# Altium footprint library LH_Traffic_Lignt_V2.0.PcbLib: 49 footprints (part 2 of 4)
Each footprint in its own frame and in the unit in brackets; x right, y up, seen from the top. Pads: shape width x height; smd on the part's side, far side on the other; paste and mask are expansions set on the pad; w line width, h text height; cw(c..) or ccw(c..) is an arc to the next point about the centre after c.
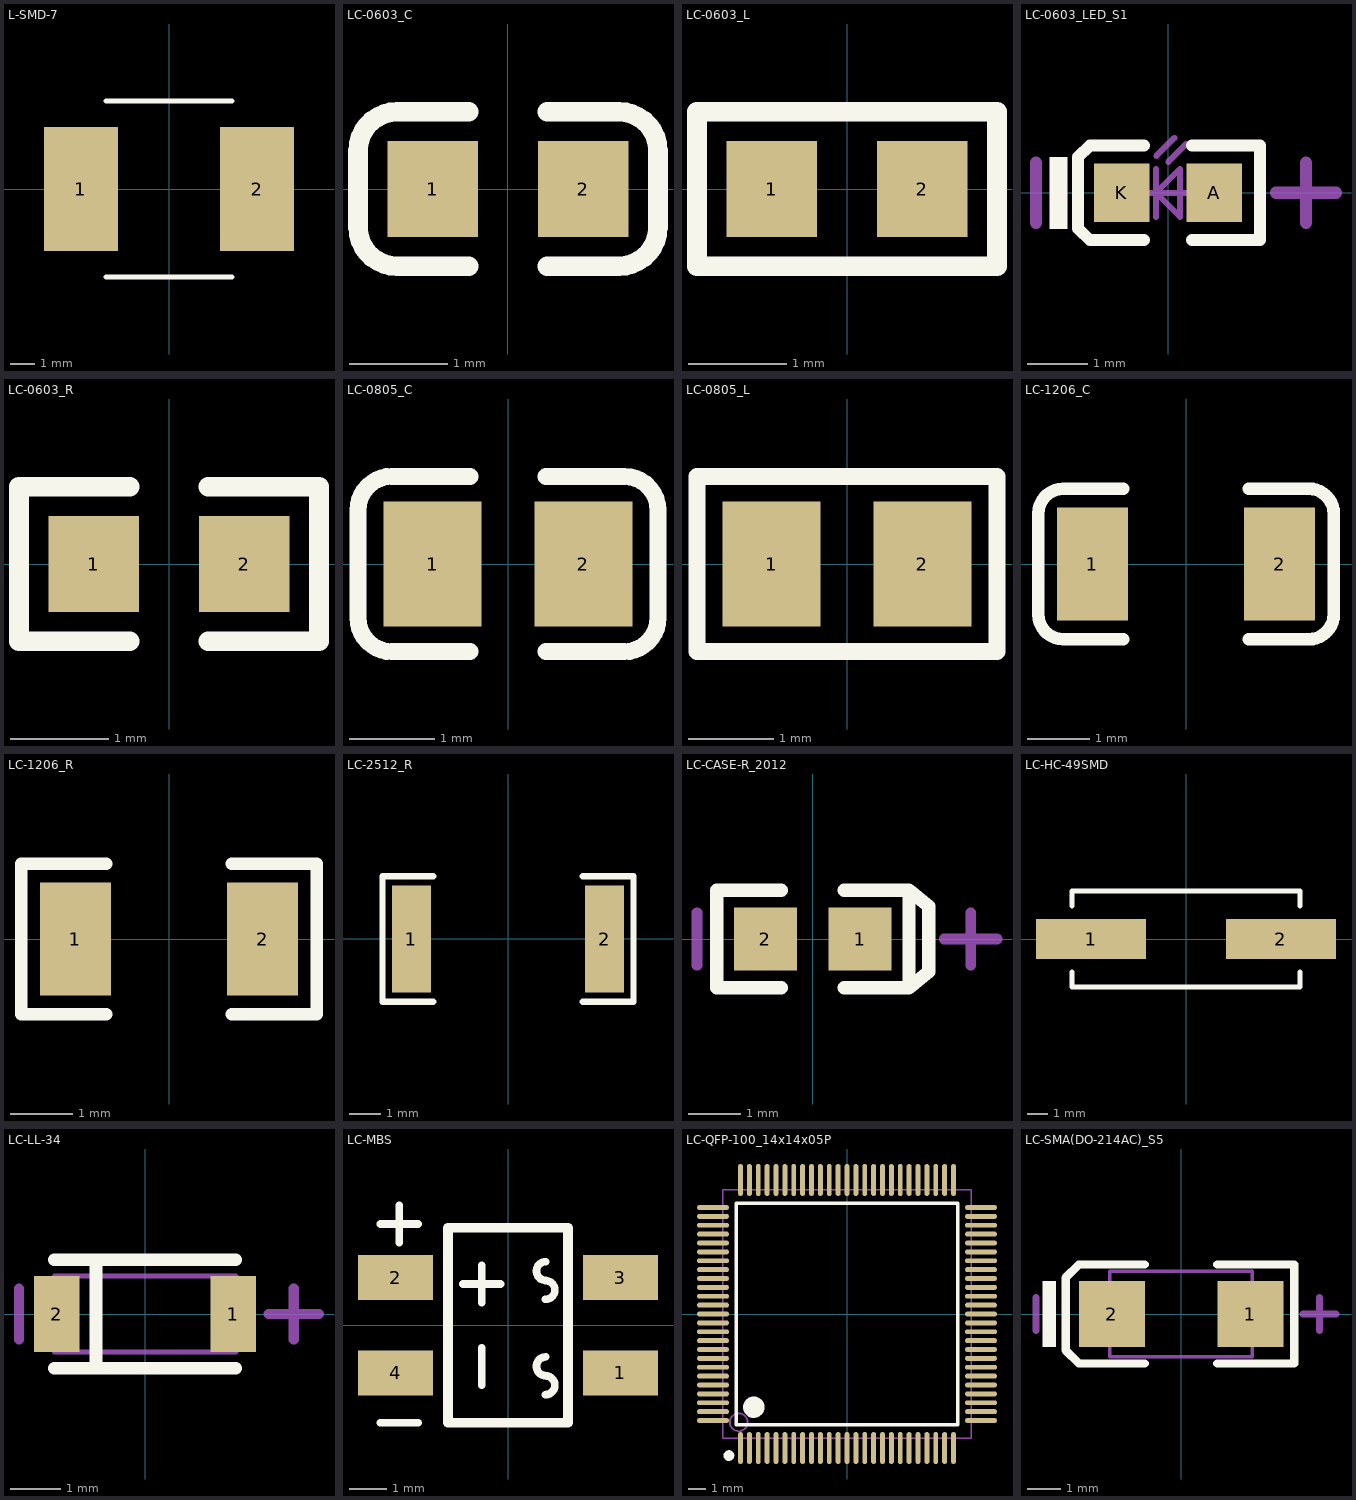
[diagram p1: the footprints below, top view; thin cyan lines are the x and y axes]

## L-SMD-7 [mm] "贴片电感7*7"
pads (2):
  rect 3x5 smd: 1(-3.556,0) 2(3.556,0)
Top Overlay:
  lines w0.2: -2.54,-3.556 2.54,-3.556 ; -2.54,3.556 2.54,3.556
3D body: height 4, standoff 0, extent -3.556,-3.556 3.556,3.556

## LC-0603_C [mm]
height 3.9
pads (2):
  rect 0.93x0.98 smd: 1(-0.77,0) 2(0.77,0)
Top Overlay:
  lines w0.2: -0.4,-0.79 -1.135,-0.79 cw(c-1.135,-0.39) -1.535,-0.39 -1.535,0.39 cw(c-1.135,0.39) -1.135,0.79 -0.4,0.79 ; 0.4,-0.79 1.135,-0.79 ccw(c1.135,-0.39) 1.535,-0.39 1.535,0.39 ccw(c1.135,0.39) 1.135,0.79 0.4,0.79
3D body "User Library-0603 SMD Capacitor.STEP": height 0.3, standoff 0, extent -0.8,-0.4 0.8,0.4

## LC-0603_L [mm]
height 3.9
pads (2):
  rect 0.93x0.98 smd: 1(-0.77,0) 2(0.77,0)
Top Overlay:
  lines w0.2: -1.535,-0.79 -1.535,0.79 1.535,0.79 1.535,-0.79 -1.535,-0.79
3D body "L0603.STEP": height 0.46, standoff -0.01, extent -0.825,-0.412 0.825,0.413

## LC-0603_LED_S1 [mm]
height 3.9
pads (2):
  rect 0.93x0.98 smd: A(0.77,0) K(-0.77,0)
Top Overlay:
  rectangle: -1.975,-0.6 -1.675,0.6
  lines w0.2: -0.4,-0.79 -1.3,-0.79 -1.5,-0.597 -1.5,0.597 -1.3,0.79 -0.4,0.79 ; 0.4,-0.79 1.535,-0.79 1.535,0.79 0.4,0.79
Mechanical 13:
  lines w0.1: -0.4,0 0.4,0 ; -0.2,-0.4 -0.2,0.4 ; -0.195,0.617 0.105,0.917 ; 0.005,0.517 0.305,0.817 ; -0.2,0 0.2,0.4 0.2,-0.4 -0.2,0
Mechanical 15:
  lines w0.203: -2.2,-0.5 -2.2,0.5 ; 1.8,0 2.8,0 ; 2.3,-0.5 2.3,0.5
3D body "User Library-LED_0603_R.STEP": height 0.6, standoff 0, extent -0.8,-0.4 0.8,0.4

## LC-0603_R [mm]
height 3.9
pads (2):
  rect 0.93x0.98 smd: 1(-0.77,0) 2(0.77,0)
Top Overlay:
  lines w0.2: -0.4,-0.79 -1.535,-0.79 -1.535,0.79 -0.4,0.79 ; 0.4,-0.79 1.535,-0.79 1.535,0.79 0.4,0.79
3D body "User Library-RES_1609-0603.STEP": height 0.56, standoff 0, extent -0.85,-0.4 0.85,0.4

## LC-0805_C [mm]
height 3.9
pads (2):
  rect 1.16x1.47 smd: 1(-0.89,0) 2(0.89,0)
Top Overlay:
  lines w0.2: -0.45,-1.035 -1.37,-1.035 cw(c-1.37,-0.635) -1.77,-0.635 -1.77,0.635 cw(c-1.37,0.635) -1.37,1.035 -0.45,1.035 ; 0.45,-1.035 1.37,-1.035 ccw(c1.37,-0.635) 1.77,-0.635 1.77,0.635 ccw(c1.37,0.635) 1.37,1.035 0.45,1.035
3D body "User Library-0805 SMD Capacitor.STEP": height 0.77, standoff -0.01, extent -0.999,-0.625 1.001,0.625

## LC-0805_L [mm]
height 3.9
pads (2):
  rect 1.16x1.47 smd: 1(-0.89,0) 2(0.89,0)
Top Overlay:
  lines w0.2: -1.77,-1.035 1.77,-1.035 1.77,1.035 -1.77,1.035 -1.77,-1.035
3D body "L0805.STEP": height 0.6, standoff -0.02, extent -1.022,-0.637 1.028,0.638

## LC-1206_C [mm]
height 3.9
pads (2):
  rect 1.13x1.8 smd: 1(-1.49,0) 2(1.49,0)
Top Overlay:
  lines w0.2: -1,-1.2 -1.955,-1.2 cw(c-1.955,-0.8) -2.355,-0.8 -2.355,0.8 cw(c-1.955,0.8) -1.955,1.2 -1,1.2 ; 1,-1.2 1.955,-1.2 ccw(c1.955,-0.8) 2.355,-0.8 2.355,0.8 ccw(c1.955,0.8) 1.955,1.2 1,1.2
3D body "C1206.STEP": height 1, standoff 0, extent -1.602,-0.813 1.598,0.787

## LC-1206_R [mm]
height 3.9
pads (2):
  rect 1.13x1.8 smd: 1(-1.49,0) 2(1.49,0)
Top Overlay:
  lines w0.2: -1,-1.2 -2.355,-1.2 -2.355,1.2 -1,1.2 ; 1,-1.2 2.355,-1.2 2.355,1.2 1,1.2
3D body "User Library-RES_3216-1206.STEP": height 0.85, standoff 0, extent -1.7,-0.864 1.65,0.866

## LC-2512_R [mm]
height 3.9
pads (2):
  rect 1.25x3.42 smd: 1(-3.1,0) 2(3.1,0)
Top Overlay:
  lines w0.2: -2.4,-2.01 -4.025,-2.01 -4.025,2.01 -2.4,2.01 ; 2.4,-2.01 4.025,-2.01 4.025,2.01 2.4,2.01
3D body "User Library-res2512_body.STEP": height 0.62, standoff 0, extent -3.159,-1.6 3.16,1.6

## LC-CASE-R_2012 [mm]
height 3.9
pads (2):
  rect 1.2x1.2 smd: 1(0.9,0) 2(-0.9,0)
Top Overlay:
  lines w0.254: -0.6,-0.927 -1.827,-0.927 -1.827,0.927 -0.6,0.927 ; 0.6,-0.927 1.827,-0.927 ; 0.6,0.927 1.827,0.927 ; 1.827,-0.927 2.2,-0.623 2.2,0.623 1.827,0.927 ; 1.827,-0.927 1.827,0.927
Mechanical 15:
  lines w0.203: -2.2,-0.5 -2.2,0.5 ; 2.5,0 3.5,0 ; 3,-0.5 3,0.5
3D body "User Library-CaseR_2012-12.STEP": height 1.2, standoff 0, extent -1,-0.65 1,0.65

## LC-HC-49SMD [mm]
height 3.9
pads (2):
  rect 5.5x2 smd: 1(-4.75,0) 2(4.75,0)
Top Overlay:
  lines w0.254: -5.7,-1.65 -5.7,-2.4 5.7,-2.4 5.7,-1.65 ; -5.7,1.65 -5.7,2.4 5.7,2.4 5.7,1.65
3D body "User Library-hc49_cystal.STEP": height 4, standoff 0, extent -6.7,-2.462 6.7,2.438

## LC-LL-34 [mm]
pads (2):
  rect 0.9x1.5 smd: 1(1.75,0) 2(-1.75,0)
Top Overlay:
  lines w0.254: -1.8,-1.075 1.8,-1.075 ; -1.8,1.075 1.8,1.075 ; -0.975,-1.075 -0.975,1.075
Mechanical 13:
  lines w0.1: -1.8,-0.75 -1.8,0.75 1.8,0.75 1.8,-0.75 -1.8,-0.75
Mechanical 15:
  lines w0.203: -2.5,-0.5 -2.5,0.5 ; 2.45,0 3.45,0 ; 2.95,-0.5 2.95,0.5

## LC-MBS [mm]
height 3.9
pads (4):
  rect 2x1.2 smd: 1(3,-1.27) 2(-3,1.27) 3(3,1.27) 4(-3,-1.27)
Top Overlay:
  lines w0.203: -3.4,-2.6 -2.4,-2.6 ; -3.4,2.7 -2.4,2.7 ; -2.9,2.2 -2.9,3.2 ; -1.2,1.1 -0.2,1.1 ; -0.7,-1.6 -0.7,-0.6 ; -0.7,0.6 -0.7,1.6 ; 1,-1.85 ccw(c1,-1.6) 1,-1.35 ; 1,0.69 ccw(c1,0.94) 1,1.19 ; 1.008,-1.345 cw(c1.008,-1.095) 1.008,-0.845 ; 1.008,1.195 cw(c1.008,1.445) 1.008,1.695
  lines w0.254: -1.6,-2.6 -1.6,2.6 1.6,2.6 1.6,-2.6 -1.6,-2.6

## LC-QFP-100_14x14x05P [mm]
height 3.9
pads (100):
  oval 0.28x1.8 smd mask+0.051: 1(-6,-7.55) 2(-5.5,-7.55) 3(-5,-7.55) 4(-4.5,-7.55) 5(-4,-7.55) 6(-3.5,-7.55) 7(-3,-7.55) 8(-2.5,-7.55) 9(-2,-7.55) 10(-1.5,-7.55) 11(-1,-7.55) 12(-0.5,-7.55) 13(0,-7.55) 14(0.5,-7.55) 15(1,-7.55) 16(1.5,-7.55) 17(2,-7.55) 18(2.5,-7.55) 19(3,-7.55) 20(3.5,-7.55) 21(4,-7.55) 22(4.5,-7.55) 23(5,-7.55) 24(5.5,-7.55) 25(6,-7.55) 51(6,7.55) 52(5.5,7.55) 53(5,7.55) 54(4.5,7.55) 55(4,7.55) 56(3.5,7.55) 57(3,7.55) 58(2.5,7.55) 59(2,7.55) 60(1.5,7.55) 61(1,7.55) 62(0.5,7.55) 63(0,7.55) 64(-0.5,7.55) 65(-1,7.55) 66(-1.5,7.55) 67(-2,7.55) 68(-2.5,7.55) 69(-3,7.55) 70(-3.5,7.55) 71(-4,7.55) 72(-4.5,7.55) 73(-5,7.55) 74(-5.5,7.55) 75(-6,7.55)
  oval 1.8x0.28 smd mask+0.051: 26(7.55,-6) 27(7.55,-5.5) 28(7.55,-5) 29(7.55,-4.5) 30(7.55,-4) 31(7.55,-3.5) 32(7.55,-3) 33(7.55,-2.5) 34(7.55,-2) 35(7.55,-1.5) 36(7.55,-1) 37(7.55,-0.5) 38(7.55,0) 39(7.55,0.5) 40(7.55,1) 41(7.55,1.5) 42(7.55,2) 43(7.55,2.5) 44(7.55,3) 45(7.55,3.5) 46(7.55,4) 47(7.55,4.5) 48(7.55,5) 49(7.55,5.5) 50(7.55,6) 76(-7.55,6) 77(-7.55,5.5) 78(-7.55,5) 79(-7.55,4.5) 80(-7.55,4) 81(-7.55,3.5) 82(-7.55,3) 83(-7.55,2.5) 84(-7.55,2) 85(-7.55,1.5) 86(-7.55,1) 87(-7.55,0.5) 88(-7.55,0) 89(-7.55,-0.5) 90(-7.55,-1) 91(-7.55,-1.5) 92(-7.55,-2) 93(-7.55,-2.5) 94(-7.55,-3) 95(-7.55,-3.5) 96(-7.55,-4) 97(-7.55,-4.5) 98(-7.55,-5) 99(-7.55,-5.5) 100(-7.55,-6)
Top Overlay:
  circle w0.6: c-5.25,-5.25 r0.3
  circle w0.3: c-6.65,-7.975 r0.15
  lines w0.2: -6.25,-6.25 -6.25,6.25 6.25,6.25 6.25,-6.25 -6.25,-6.25
Mechanical 13:
  circle w0.1: c-6.1,-6.1 r0.5
  lines w0.1: -7,-7 -7,7 7,7 7,-7 -7,-7

## LC-SMA(DO-214AC)_S5 [mm]
height 3.9
pads (2):
  rect 2x2 smd: 1(2.1,0) 2(-2.1,0)
Top Overlay:
  rectangle: -4.201,-1.001 -3.801,0.999
  lines w0.254: -1.1,-1.5 -3.1,-1.5 -3.5,-1.1 -3.5,1.1 -3.1,1.5 -1.1,1.5 ; 1.1,-1.5 3.431,-1.5 3.431,1.5 1.1,1.5
Mechanical 13:
  lines w0.1: -2.16,-1.3 -2.16,1.3 2.16,1.3 2.16,-1.3 -2.16,-1.3
Mechanical 15:
  lines w0.203: -4.4,-0.5 -4.4,0.5 ; 3.7,0 4.7,0 ; 4.2,-0.5 4.2,0.5